# Altium schematic symbol library Arduino_MEGA_ADK.SchLib: 17 symbols
Pins are listed as number, name and electrical type; pins without a type are passive.

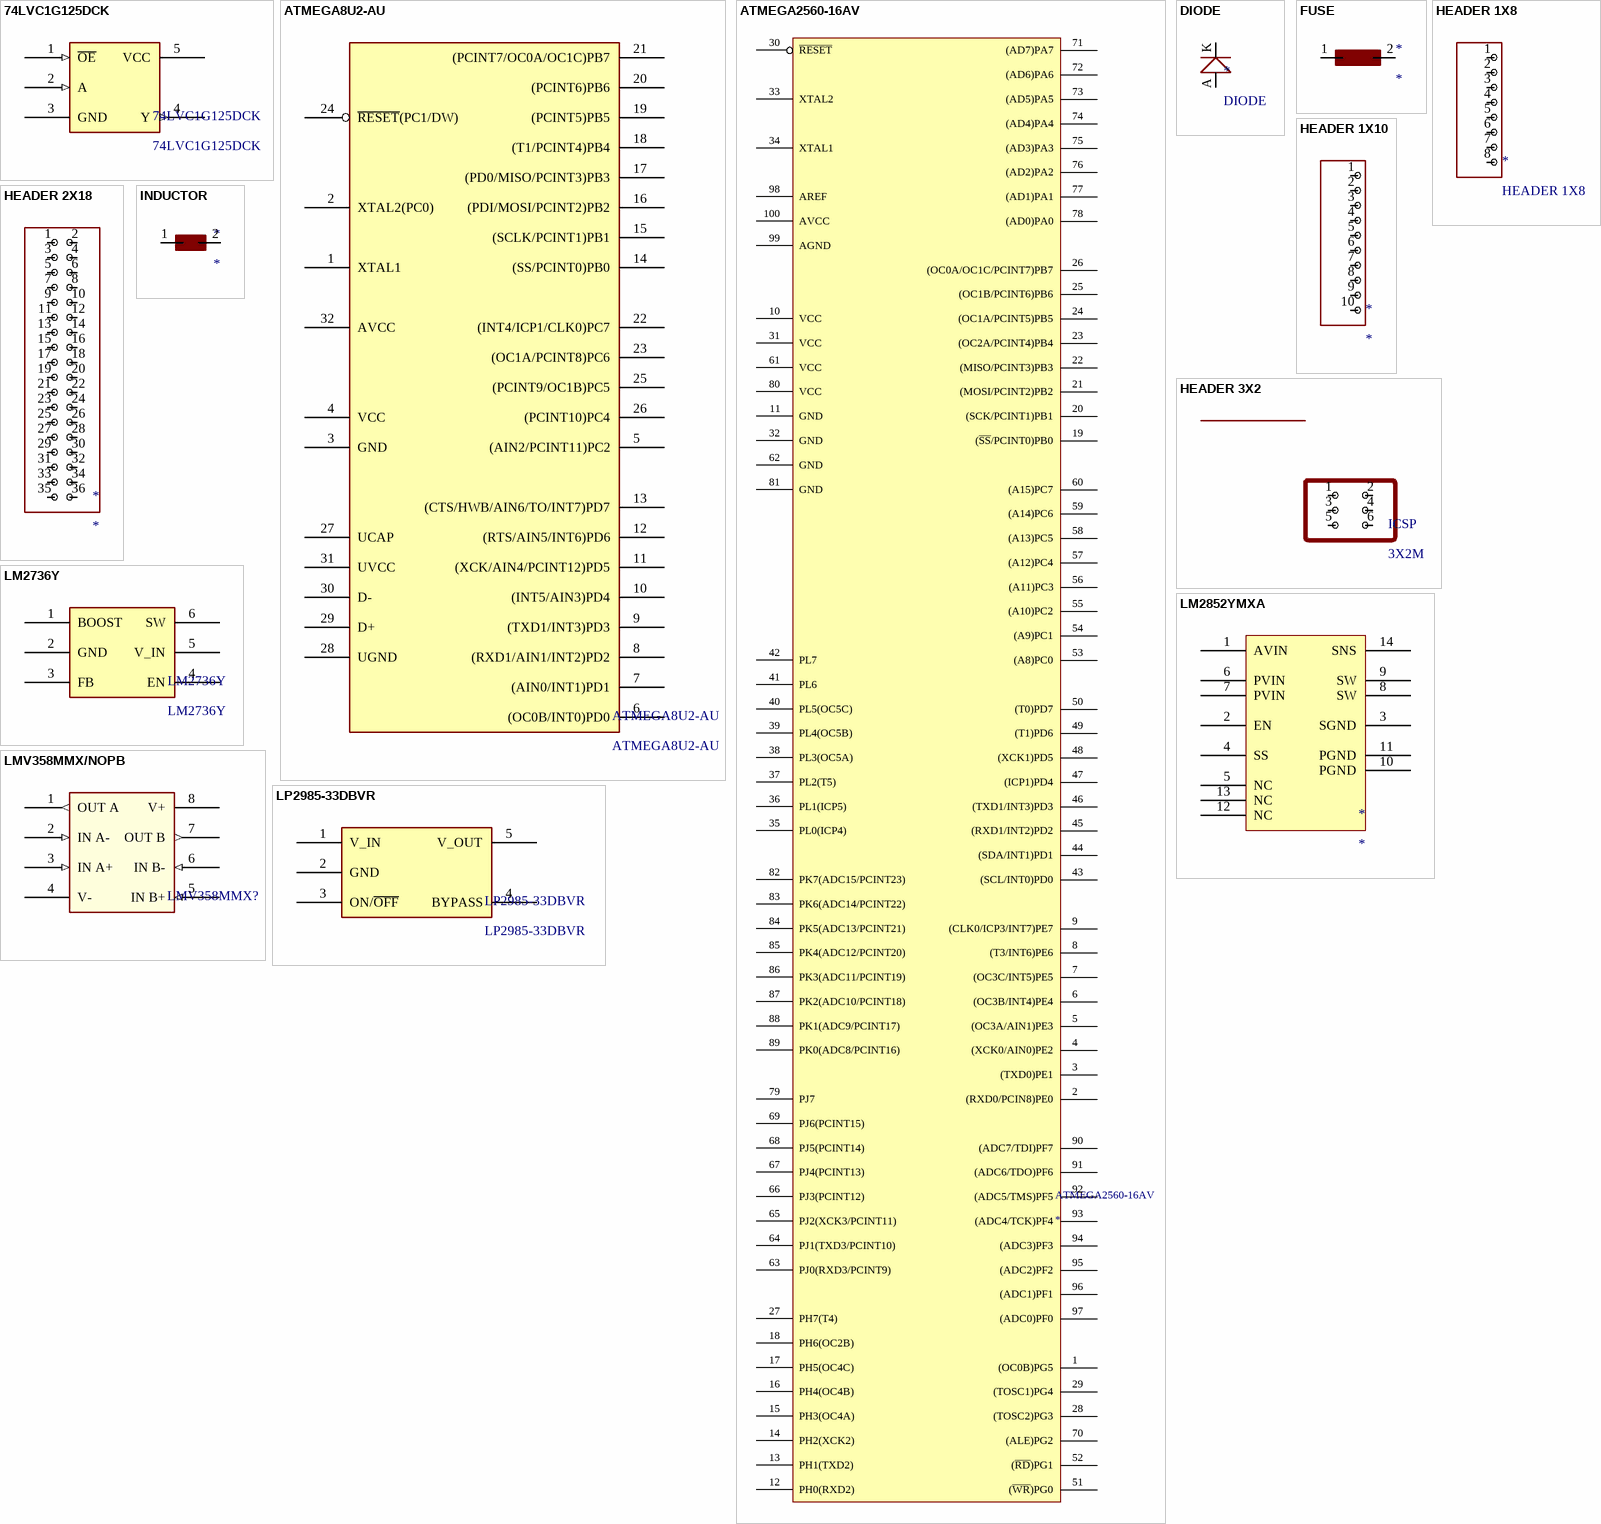
[diagram p0: symbols 74LVC1G125DCK to LP2985-33DBVR]

## 74LVC1G125DCK
designator 74LVC1G125DCK
Supplier 1: Mouser; Supplier Part Number 1: 595-SN74LVC1G125DCKT
footprint SOT65P210X110-5N (SOT23, 5-Leads, Body 2,00x2,10mm, Pitch 0,65mm, IPC Medium Density)
pins: 1 ~{OE} (in), 2 A (in), 3 GND, 4 Y (out), 5 VCC

## ATMEGA8U2-AU
designator ATMEGA8U2-AU
Supplier 1: Mouser; Supplier Part Number 1: 556-ATMEGA8U2-AU
footprint TQFP80P900X900X120-32N (TQFP, 32-Leads, Body 7,00x7,00mm, Pitch 0,80mm, IPC Medium Density)
pins: 1 XTAL1, 2 XTAL2(PC0), 3 GND, 4 VCC, 5 (AIN2/PCINT11)PC2, 6 (OC0B/INT0)PD0, 7 (AIN0/INT1)PD1, 8 (RXD1/AIN1/INT2)PD2, 9 (TXD1/INT3)PD3, 10 (INT5/AIN3)PD4, 11 (XCK/AIN4/PCINT12)PD5, 12 (RTS/AIN5/INT6)PD6, 13 (CTS/HWB/AIN6/TO/INT7)PD7, 14 (SS/PCINT0)PB0, 15 (SCLK/PCINT1)PB1, 16 (PDI/MOSI/PCINT2)PB2, 17 (PD0/MISO/PCINT3)PB3, 18 (T1/PCINT4)PB4, 19 (PCINT5)PB5, 20 (PCINT6)PB6, 21 (PCINT7/OC0A/OC1C)PB7, 22 (INT4/ICP1/CLK0)PC7, 23 (OC1A/PCINT8)PC6, 24 ~{RESET}(PC1/DW), 25 (PCINT9/OC1B)PC5, 26 (PCINT10)PC4, 27 UCAP, 28 UGND, 29 D+, 30 D-, 31 UVCC, 32 AVCC

## ATMEGA2560-16AV
designator ATMEGA2560-16AV
Supplier 1: Mouser; Supplier Part Number 1: 556-ATMEGA2560-16AU
footprint TSQFP50P1600X1600X120-100N (TSQFP, 100-Leads, Body 14,00x14,00mm, Pitch 0,50mm, IPC Medium Density)
pins: 1 (OC0B)PG5, 2 (RXD0/PCIN8)PE0, 3 (TXD0)PE1, 4 (XCK0/AIN0)PE2, 5 (OC3A/AIN1)PE3, 6 (OC3B/INT4)PE4, 7 (OC3C/INT5)PE5, 8 (T3/INT6)PE6, 9 (CLK0/ICP3/INT7)PE7, 10 VCC, 11 GND, 12 PH0(RXD2), 13 PH1(TXD2), 14 PH2(XCK2), 15 PH3(OC4A), 16 PH4(OC4B), 17 PH5(OC4C), 18 PH6(OC2B), 19 (~{SS}/PCINT0)PB0, 20 (SCK/PCINT1)PB1, 21 (MOSI/PCINT2)PB2, 22 (MISO/PCINT3)PB3, 23 (OC2A/PCINT4)PB4, 24 (OC1A/PCINT5)PB5, 25 (OC1B/PCINT6)PB6, 26 (OC0A/OC1C/PCINT7)PB7, 27 PH7(T4), 28 (TOSC2)PG3, 29 (TOSC1)PG4, 30 ~{RESET}, 31 VCC, 32 GND, 33 XTAL2, 34 XTAL1, 35 PL0(ICP4), 36 PL1(ICP5), 37 PL2(T5), 38 PL3(OC5A), 39 PL4(OC5B), 40 PL5(OC5C), 41 PL6, 42 PL7, 43 (SCL/INT0)PD0, 44 (SDA/INT1)PD1, 45 (RXD1/INT2)PD2, 46 (TXD1/INT3)PD3, 47 (ICP1)PD4, 48 (XCK1)PD5, 49 (T1)PD6, 50 (T0)PD7, 51 (~{WR})PG0, 52 (~{RD})PG1, 53 (A8)PC0, 54 (A9)PC1, 55 (A10)PC2, 56 (A11)PC3, 57 (A12)PC4, 58 (A13)PC5, 59 (A14)PC6, 60 (A15)PC7, 61 VCC, 62 GND, 63 PJ0(RXD3/PCINT9), 64 PJ1(TXD3/PCINT10), 65 PJ2(XCK3/PCINT11), 66 PJ3(PCINT12), 67 PJ4(PCINT13), 68 PJ5(PCINT14), 69 PJ6(PCINT15), 70 (ALE)PG2, 71 (AD7)PA7, 72 (AD6)PA6, 73 (AD5)PA5, 74 (AD4)PA4, 75 (AD3)PA3, 76 (AD2)PA2, 77 (AD1)PA1, 78 (AD0)PA0, 79 PJ7, 80 VCC, 81 GND, 82 PK7(ADC15/PCINT23), 83 PK6(ADC14/PCINT22), 84 PK5(ADC13/PCINT21), 85 PK4(ADC12/PCINT20), 86 PK3(ADC11/PCINT19), 87 PK2(ADC10/PCINT18), 88 PK1(ADC9/PCINT17), 89 PK0(ADC8/PCINT16), 90 (ADC7/TDI)PF7, 91 (ADC6/TDO)PF6, 92 (ADC5/TMS)PF5, 93 (ADC4/TCK)PF4, 94 (ADC3)PF3, 95 (ADC2)PF2, 96 (ADC1)PF1, 97 (ADC0)PF0, 98 AREF, 99 AGND, 100 AVCC

## DIODE
designator *
footprint SMD DIODE
pins: A, K

## FUSE
designator *
footprint FUSE
pins: 1, 2

## HEADER 1X8
designator *
footprint PWM
footprint COMMUNICATION
footprint POWER
footprint ADCL
footprint ADCH
pins: 1, 2, 3, 4, 5, 6, 7, 8

## HEADER 1X10
designator *
footprint HEADER 1X10
pins: 1, 2, 3, 4, 5, 6, 7, 8, 9, 10

## HEADER 2X18
designator *
footprint HEADER 2X18
pins: 1, 2, 3, 4, 5, 6, 7, 8, 9, 10, 11, 12, 13, 14, 15, 16, 17, 18, 19, 20, 21, 22, 23, 24, 25, 26, 27, 28, 29, 30, 31, 32, 33, 34, 35, 36

## HEADER 3X2
designator ICSP, comment 3X2M
PIN HEADER
footprint Header 3x2
pins: 1, 2, 3, 4, 5, 6

## INDUCTOR
designator *
footprint INDUCTOR
pins: 1, 2

## LM2736Y
designator LM2736Y
Supplier 1: Mouser; Supplier Part Number 1: 926-LM2736YMK
footprint TSOP95P290X90-6N (TSOP, 6-Leads, Body 2,97x1,65mm, Pitch 0,95mm, IPC Medium Density)
pins: 1 BOOST, 2 GND, 3 FB, 4 EN, 5 V_IN, 6 SW

## LM2852YMXA
designator *
pins: 1 AVIN, 2 EN, 3 SGND, 4 SS, 5 NC, 6 PVIN, 7 PVIN, 8 SW, 9 SW, 10 PGND, 11 PGND, 12 NC, 13 NC, 14 SNS

## LMV358MMX/NOPB
designator LMV358MMX?
Supplier Part Number 1: 926-LMV358MMX/NOPB
footprint TSOP65P490X110-8L (TSOP, 8-Leads, Body 3,00x3,00mm, Pitch 0,65mm, IPC High Density)
pins: 1 OUT A (out), 2 IN A- (in), 3 IN A+ (in), 4 V- (power), 5 IN B+ (in), 6 IN B- (in), 7 OUT B (out), 8 V+ (power)

## LP2985-33DBVR
designator LP2985-33DBVR
Supplier 1: Mouser; Supplier Part Number 1: 595-LP2985-33DBVR
footprint SOT95P280X145-5N (SOT23, 5-Leads, Body 2,90x2,80mm, Pitch 0,95mm, IPC Medium Density)
pins: 1 V_IN, 2 GND, 3 ON/~{OFF}, 4 BYPASS, 5 V_OUT

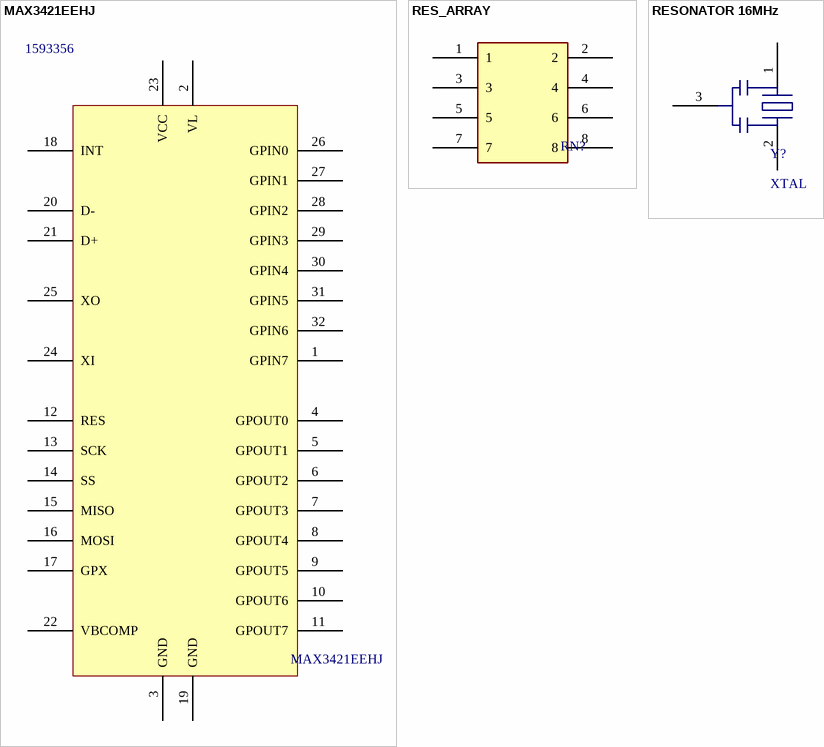
[diagram p1: symbols MAX3421EEHJ to RESONATOR 16MHz]

## MAX3421EEHJ
designator MAX3421EEHJ  Supplier Part Number 1: 1593356  (hidden comment: MAX3421EEHJ)
Supplier 1: Farnell
footprint TSQFP50P700X700X120-32N (TSQFP, 32-Leads, Body 5,00x5,00mm, Pitch 0,50mm, IPC Medium Density)
pins: 1 GPIN7, 2 VL, 3 GND, 4 GPOUT0, 5 GPOUT1, 6 GPOUT2, 7 GPOUT3, 8 GPOUT4, 9 GPOUT5, 10 GPOUT6, 11 GPOUT7, 12 RES, 13 SCK, 14 SS, 15 MISO, 16 MOSI, 17 GPX, 18 INT, 19 GND, 20 D-, 21 D+, 22 VBCOMP, 23 VCC, 24 XI, 25 XO, 26 GPIN0, 27 GPIN1, 28 GPIN2, 29 GPIN3, 30 GPIN4, 31 GPIN5, 32 GPIN6

## RES_ARRAY
designator RN?, comment RN?  (value not drawn)
footprint CAF-80P319X159-8N (Chip Array, Flat, 8-Leads, Pitch 0,80mm,  Body 3,20x1,60mm,  IPC Medium Density)
pins: 1, 2, 3, 4, 5, 6, 7, 8

## RESONATOR 16MHz
designator Y?, comment XTAL
pins: 1, 2, 3